# Altium footprint library GSM_PCB_ANTENNA.PcbLib: 1 footprints
Each footprint in its own frame and in the unit in brackets; x right, y up, seen from the top. Pads: shape width x height; smd on the part's side, far side on the other; paste and mask are expansions set on the pad; w line width, h text height; cw(c..) or ccw(c..) is an arc to the next point about the centre after c.
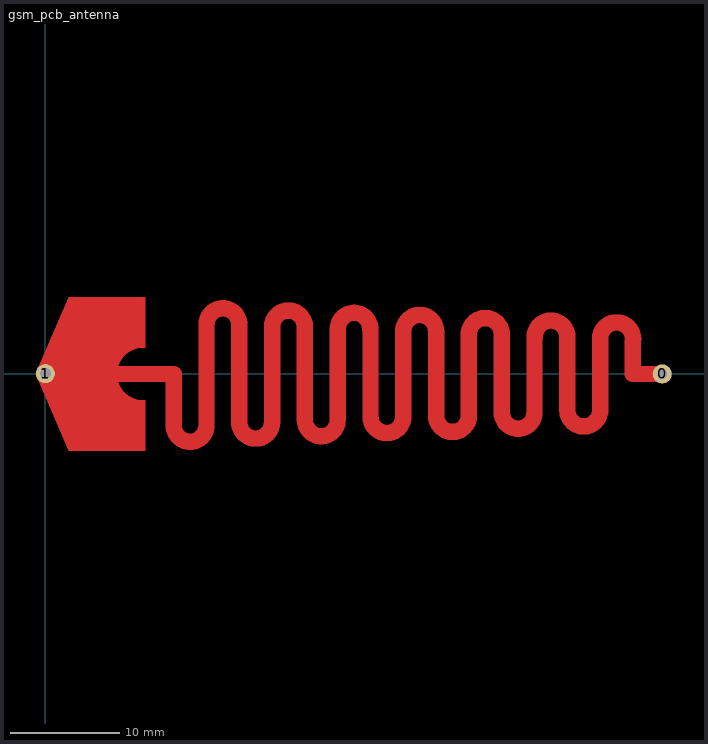
[diagram p0: the footprint, top view; thin cyan lines are the x and y axes]

## gsm_pcb_antenna [mm]
pads (2):
  round 1.75 hole 0.9 mask-25.4: 0(56.411,-0.026)
  round 1.75 hole 1: 1(0,0)
Top Layer:
  region: 9.13,-2.43 8.63,-2.43 7.93,-2.33 7.03,-1.73 6.43,-0.73 6.43,0.07 6.53,0.67 7.13,1.57 7.63,2.07 8.33,2.37 9.13,2.37 9.13,6.97 2.13,6.97 -0.87,-0.03 2.13,-7.03 9.13,-7.03
  lines w0.25: 8.93,-2.532 cw(c8.93,-0.03) 8.93,2.472 ; 9.13,-0.03 11.13,-0.03 11.13,-0.53 ; 55.13,-0.03 55.13,0.24
  lines w1.5: 6.43,-0.03 11.73,-0.03 11.73,-4.63 ; 11.73,-4.73 ccw(c13.23,-4.73) 14.73,-4.73 ; 14.73,-4.43 14.73,4.47 cw(c16.23,4.47) 17.73,4.47 17.73,-4.43 ccw(c19.23,-4.43) 20.73,-4.43 ; 20.73,-4.35 20.73,4.37 ; 20.73,4.27 cw(c22.23,4.27) 23.73,4.27 ; 23.73,-4.23 ccw(c25.23,-4.23) 26.73,-4.23 ; 23.73,-4.13 23.73,4.28 ; 26.73,-4.03 26.73,4.17 ; 26.74,4.07 cw(c28.23,4.07) 29.72,4.07 ; 29.73,3.87 29.73,-3.93 ccw(c31.23,-3.93) 32.73,-3.93 ; 32.73,-3.91 32.73,3.77 ; 32.73,3.87 cw(c34.23,3.87) 35.73,3.87 ; 35.73,-3.83 ccw(c37.23,-3.83) 38.73,-3.83 ; 35.73,-3.63 35.73,3.67 ; 38.717,3.57 cw(c40.23,3.57) 41.743,3.57 ; 38.73,-3.63 38.73,3.47 ; 41.73,-3.53 ccw(c43.23,-3.53) 44.73,-3.53 ; 41.73,-3.43 41.73,3.37 ; 44.73,-3.63 44.73,3.47 ; 44.739,3.37 cw(c46.23,3.37) 47.721,3.37 ; 47.73,3.47 47.73,-3.33 ccw(c49.23,-3.33) 50.73,-3.33 ; 50.717,3.17 cw(c52.23,3.17) 53.743,3.17 ; 50.73,-3.53 50.73,3.17 ; 53.73,2.97 53.73,-0.03 56.43,-0.03
Top Solder:
  region: 53.009,6.29 32.943,6.29 32.943,4.766 32.943,4.258 32.943,3.75 53.009,3.75
  region: 56.411,-0.934 56.646,-0.903 56.865,-0.812 57.053,-0.668 57.197,-0.48 57.288,-0.261 57.319,-0.026 57.288,0.209 57.197,0.428 57.053,0.616 56.865,0.76 56.646,0.851 56.411,0.882 56.176,0.851 55.957,0.76 55.769,0.616 55.625,0.428 55.534,0.209 55.503,-0.026 55.534,-0.261 55.625,-0.48 55.769,-0.668 55.957,-0.812 56.176,-0.903
Bottom Solder:
  region: 56.411,-0.934 56.646,-0.903 56.865,-0.812 57.053,-0.668 57.197,-0.48 57.288,-0.261 57.319,-0.026 57.288,0.209 57.197,0.428 57.053,0.616 56.865,0.76 56.646,0.851 56.411,0.882 56.176,0.851 55.957,0.76 55.769,0.616 55.625,0.428 55.534,0.209 55.503,-0.026 55.534,-0.261 55.625,-0.48 55.769,-0.668 55.957,-0.812 56.176,-0.903
Mechanical 13:
  text ".Designator" at 0.381,8.382 h2.5